# Altium footprint library NTMTSC4D3N15MC.PcbLib: 1 footprints
Each footprint in its own frame and in the unit in brackets; x right, y up, seen from the top. Pads: shape width x height; smd on the part's side, far side on the other; paste and mask are expansions set on the pad; w line width, h text height; cw(c..) or ccw(c..) is an arc to the next point about the centre after c.
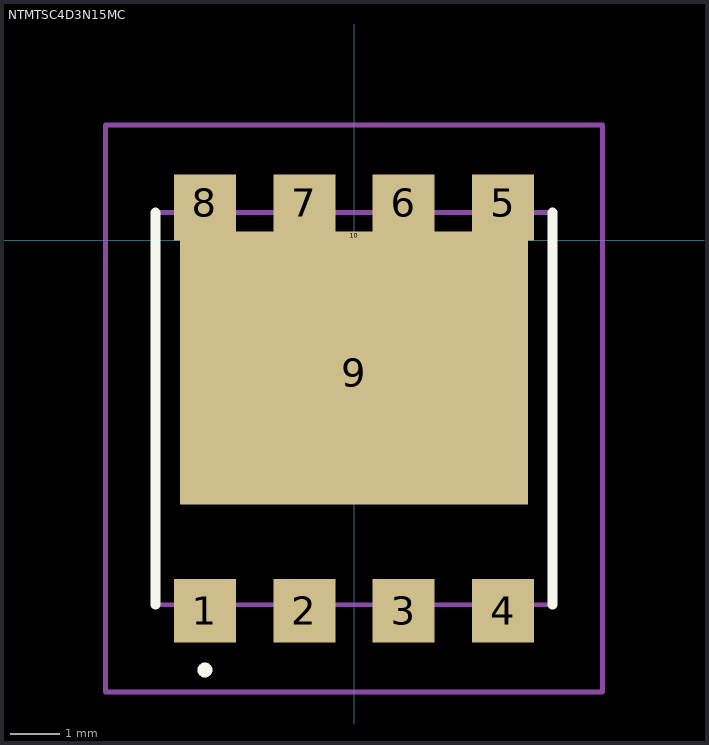
[diagram p0: the footprint, top view; thin cyan lines are the x and y axes]

## NTMTSC4D3N15MC [mm]
pads (10):
  rect 1.25x1.28 smd: 1(-3,-7.455) 2(-1,-7.455) 3(1,-7.455) 4(3,-7.455)
  rect 1.25x1.15 smd: 5(3,0.755) 6(1,0.755) 7(-1,0.755) 8(-3,0.755)
  rect 7x5.32 smd: 9(0,-2.66)
  rect 7.25x0.18 smd: 10(0,0.09)
Top Overlay:
  lines w0.2: -4,-7.335 -4,0.565 ; -4,-7.335 -4,-7.335 ; -4,-7.335 -4,0.565 ; -4,0.565 -4,0.565 ; -3,-8.698 -3,-8.698 ; -3,-8.698 ccw(c-3,-8.648) -3,-8.598 ; -3,-8.698 cw(c-3,-8.648) -3,-8.598 ; -3,-8.698 -3,-8.698 ; -3,-8.698 ccw(c-3,-8.648) -3,-8.598 ; -3,-8.598 -3,-8.598 ; 4,-7.335 4,-7.335 ; 4,-7.335 4,0.565 ; 4,-7.335 4,0.565 ; 4,0.565 4,0.565
Mechanical 15:
  lines w0.1: -4,-7.335 4,-7.335 4,0.565 -4,0.565 -4,-7.335
Mechanical 20:
  lines w0.1: -5,-9.095 5,-9.095 5,2.325 -5,2.325 -5,-9.095